# Altium schematic symbol library Schlib1.SchLib: 28 symbols
Pins are listed as number, name and electrical type; pins without a type are passive.

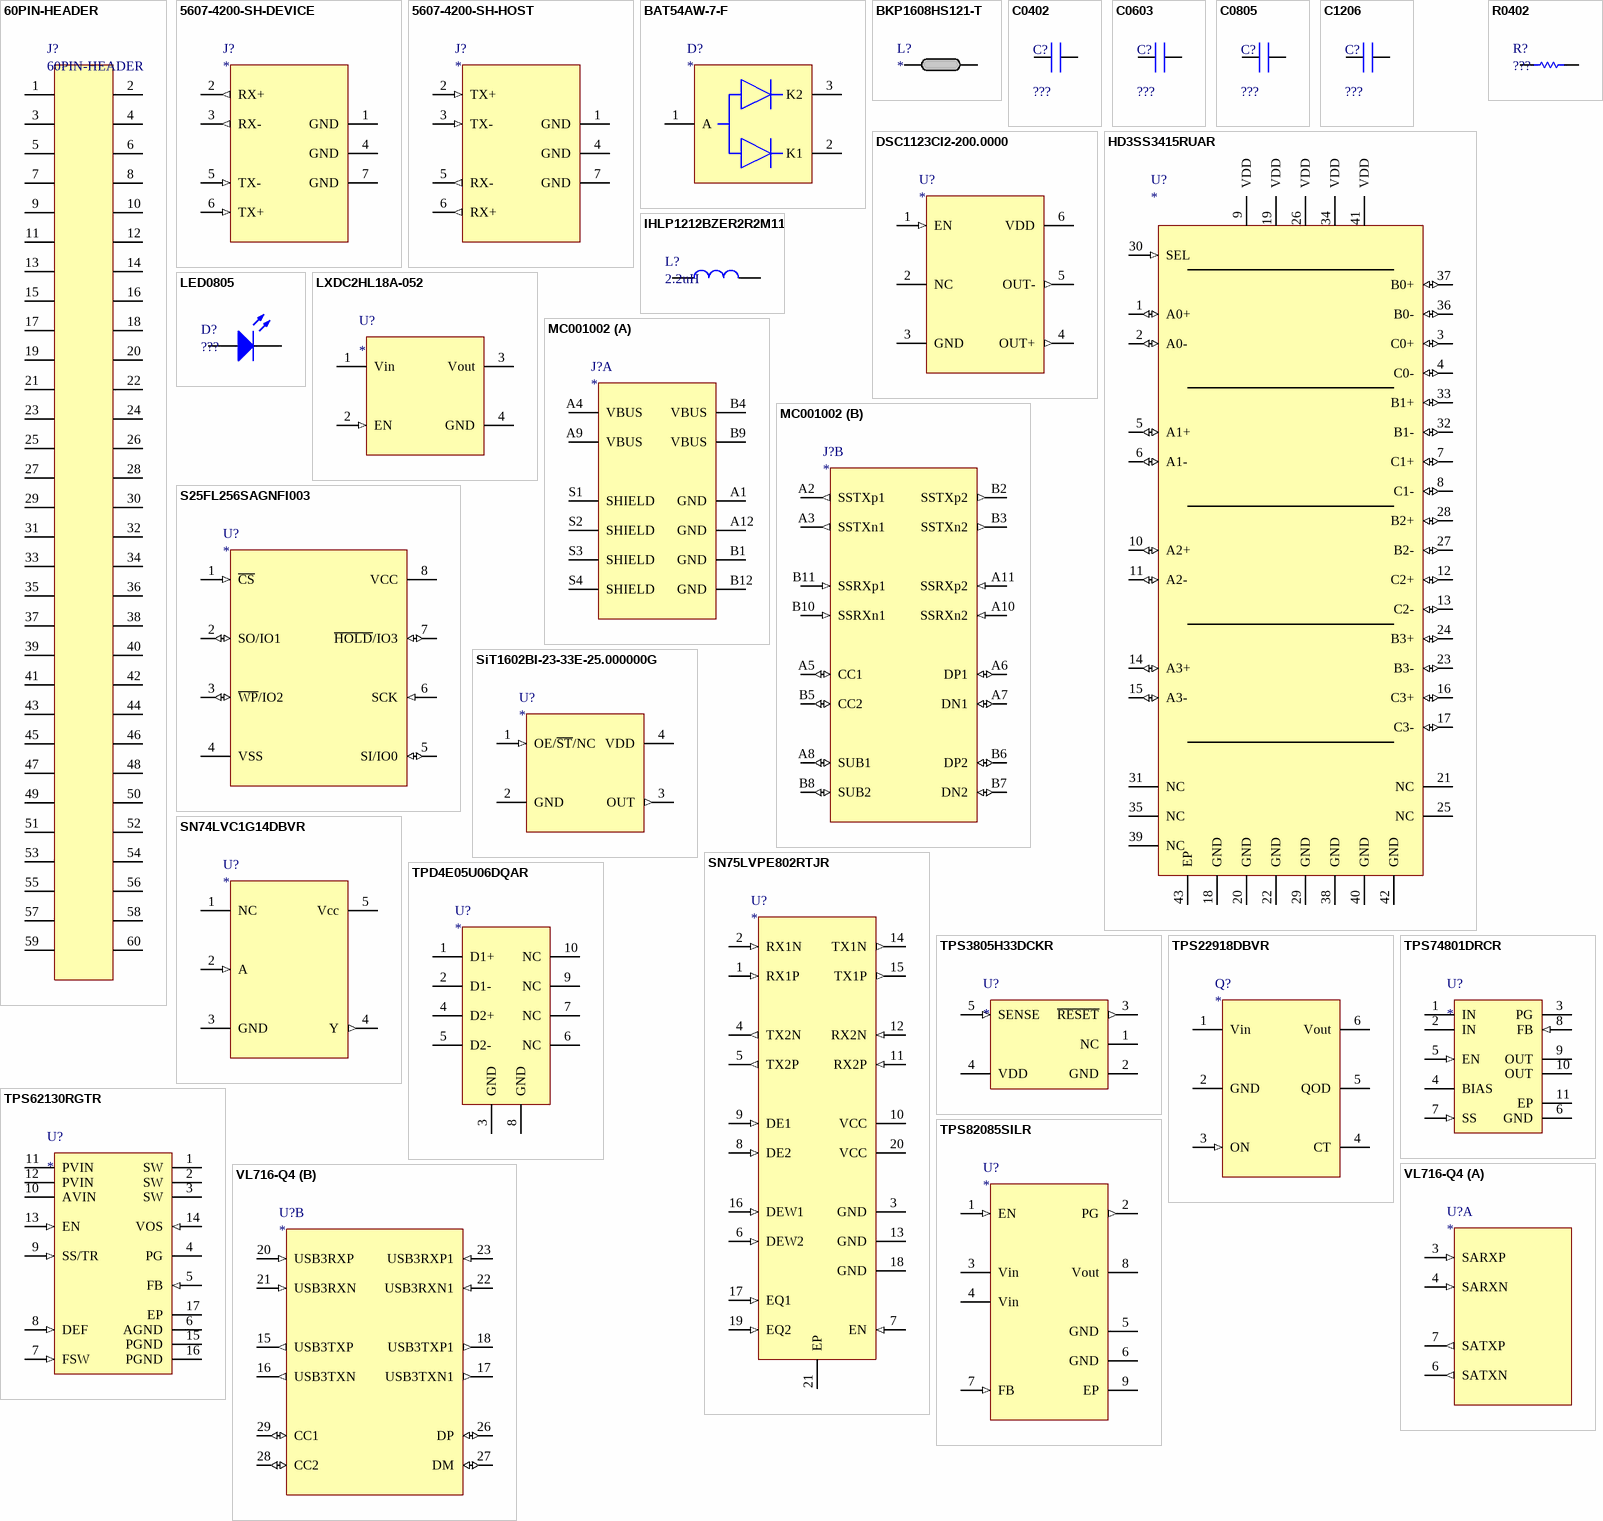
[diagram p0: symbols 60PIN-HEADER to VL716-Q4]

## 60PIN-HEADER
designator J?
2.54mm 60-pin header
footprint 60PIN-HEADER
pins: 1, 2, 3, 4, 5, 6, 7, 8, 9, 10, 11, 12, 13, 14, 15, 16, 17, 18, 19, 20, 21, 22, 23, 24, 25, 26, 27, 28, 29, 30, 31, 32, 33, 34, 35, 36, 37, 38, 39, 40, 41, 42, 43, 44, 45, 46, 47, 48, 49, 50, 51, 52, 53, 54, 55, 56, 57, 58, 59, 60

## 5607-4200-SH-DEVICE
designator J?
3M SATA Series Connector (Device)
footprint 5607-4200-SH (Recommended pcb layout for 5607-4200-SH)
pins: 1 GND (power), 2 RX+ (out), 3 RX- (out), 4 GND (power), 5 TX- (in), 6 TX+ (in), 7 GND (power)

## 5607-4200-SH-HOST
designator J?
3M SATA Series Connector (Host)
footprint 5607-4200-SH (Recommended pcb layout for 5607-4200-SH)
pins: 1 GND (power), 2 TX+ (in), 3 TX- (in), 4 GND (power), 5 RX- (out), 6 RX+ (out), 7 GND (power)

## BAT54AW-7-F
designator D?
SCHOTTKY BARRIER DIODE
footprint BAT54AW-7-F (SOT23, 3-Leads, Body 1,97x2,05mm, Pitch 0,65mm, IPC Medium Density)
pins: 1 A, 2 K1, 3 K2

## BKP1608HS121-T
designator L?
MULTILAYER CHIP BEAD INDUCTOR FOR POWER LINES
footprint INDC1608X08N (Chip Inductor, 2-Leads, Body 1,60x0,80mm, IPC Medium Density)
pins: 1, 2

## C0402
designator C?, comment ???
Ceramic Chip Capacitor; Value: ???
footprint CAPC1005X05N (Chip Capacitor, 2-Leads, Body 1,00x0,50mm, IPC Medium Density)
footprint CAPC1005X05L (Chip Capacitor, 2-Leads, Body 1,00x0,50mm, IPC High Density)
pins: 1, 2

## C0603
designator C?, comment ???
Ceramic Chip Capacitor; Value: ???
footprint CAPC1608X08N (Chip Capacitor, 2-Leads, Body 1,60x0,80mm, IPC Medium Density)
pins: 1, 2

## C0805
designator C?, comment ???
Ceramic Chip Capacitor; Value: ???
footprint CAPC2012X12N (Chip Capacitor, 2-Leads, Body 2,00x1,20mm, IPC Medium Density)
pins: 1, 2

## C1206
designator C?, comment ???
Ceramic Chip Capacitor; Value: ???
footprint CAPC3216X16N (Chip Capacitor, 2-Leads, Body 3,20x1,60mm, IPC Medium Density)
pins: 1, 2

## DSC1123CI2-200.0000
designator U?
Low-Jitter Precision LVDS Oscillator
footprint DSC1123CI2-200.0000 (PSON, 6-Leads, Body 3,20x2,50mm, Pitch 1,05mm, IPC Medium Density)
pins: 1 EN (in), 2 NC, 3 GND (power), 4 OUT+ (out), 5 OUT- (out), 6 VDD (power)

## HD3SS3415RUAR
designator U?
4-Channel High-Performance Differential Switch
footprint HD3SS3415RUAR (QFN, 42-Leads, Body 3,50x9,00mm, Pitch 0,50mm, Thermal Pad 2,05x7,55mm, IPC Medium Density)
pins: 1 A0+ (io), 2 A0- (io), 3 C0+ (io), 4 C0- (io), 5 A1+ (io), 6 A1- (io), 7 C1+ (io), 8 C1- (io), 9 VDD (power), 10 A2+ (io), 11 A2- (io), 12 C2+ (io), 13 C2- (io), 14 A3+ (io), 15 A3- (io), 16 C3+ (io), 17 C3- (io), 18 GND (power), 19 VDD (power), 20 GND (power), 21 NC, 22 GND (power), 23 B3- (io), 24 B3+ (io), 25 NC, 26 VDD (power), 27 B2- (io), 28 B2+ (io), 29 GND (power), 30 SEL (in), 31 NC, 32 B1- (io), 33 B1+ (io), 34 VDD (power), 35 NC, 36 B0- (io), 37 B0+ (io), 38 GND (power), 39 NC, 40 GND (power), 41 VDD (power), 42 GND (power), 43 EP (power)

## IHLP1212BZER2R2M11
designator L?, comment 2.2uH
Commercial Inductors, Low DCR Series; Value: 2.2uH
footprint IHLP1212BZER2R2M11 (Molded Inductor, 2-Leads, Body 3,00x3,00mm, IPC Medium Density)
pins: 1, 2

## LED0805
designator D?, comment ???
SMD chip LED; Text: ???
footprint LEDC2012X10N (Chip LED, 2-Leads, Body 2,00x1,25mm, IPC Medium Density)
pins: 1 K, 2 A

## LXDC2HL18A-052
designator U?
Low power step-down DC-DC converter.
footprint LXDC2HL18A-052 (DFN, 4-Leads, Body 2,50x2,00mm, Pitch 1,10mm, IPC Medium Density)
pins: 1 Vin (power), 2 EN (in), 3 Vout (power), 4 GND (power)

## MC001002
designator J?
USB C Female SMT Connector
footprint MC001002 (Recommended pcb layout for MC001002)
part A pins: A1 GND (power), A4 VBUS (power), A9 VBUS (power), A12 GND (power), B1 GND (power), B4 VBUS (power), B9 VBUS (power), B12 GND (power), S1 SHIELD (power), S2 SHIELD (power), S3 SHIELD (power), S4 SHIELD (power)
part B pins: A2 SSTXp1 (out), A3 SSTXn1 (out), A5 CC1 (io), A6 DP1 (io), A7 DN1 (io), A8 SUB1 (io), A10 SSRXn2 (in), A11 SSRXp2 (in), B2 SSTXp2 (out), B3 SSTXn2 (out), B5 CC2 (io), B6 DP2 (io), B7 DN2 (io), B8 SUB2 (io), B10 SSRXn1 (in), B11 SSRXp1 (in)

## R0402
designator R?, comment ???
Ceramic Chip Resistor; Value: ???
footprint RESC1005X05N (Chip Resistor, 2-Leads, Body 1,00x0,50mm, IPC Medium Density)
pins: 1, 2

## S25FL256SAGNFI003
designator U?
256 Mbit (32 Mbyte)  3.0V SPI Flash Memory
footprint S25FL256SAGNFI003 (SON, 8-Leads, Body 6,00x8,00mm, Pitch 1,27mm, Thermal Pad 4,80x4,65mm, IPC Medium Density)
pins: 1 ~{CS} (in), 2 SO/IO1 (io), 3 ~{WP}/IO2 (io), 4 VSS (power), 5 SI/IO0 (io), 6 SCK (in), 7 ~{HOLD}/IO3 (io), 8 VCC (power)

## SiT1602BI-23-33E-25.000000G
designator U?
Low Power, Standard Frequency Oscillator
footprint SiT1602BI-23-33E-25.000000G (DFN, 4-Leads, Body 3,20x2,50mm, Pitch 1,60mm, IPC Medium Density)
pins: 1 OE/~{ST}/NC (in), 2 GND (power), 3 OUT (out), 4 VDD (power)

## SN74LVC1G14DBVR
designator U?
Single Schmitt-Trigger Inverter
footprint SN74LVC1G14DBVR (SOT23, 5-Leads, Body 2,90x2,80mm, Pitch 0,95mm, IPC Medium Density)
pins: 1 NC, 2 A (in), 3 GND (power), 4 Y (out), 5 Vcc (power)

## SN75LVPE802RTJR
designator U?
Two-Channel 8 Gbps SATA Express Equalizer and Redriver
footprint SN75LVPE802RTJR (QFN, 20-Leads, Body 4,00x4,00mm, Pitch 0,50mm, Thermal Pad 2,15x2,15mm, IPC Medium Density)
pins: 1 RX1P (in), 2 RX1N (in), 3 GND (power), 4 TX2N (out), 5 TX2P (out), 6 DEW2 (in), 7 EN (in), 8 DE2 (in), 9 DE1 (in), 10 VCC (power), 11 RX2P (in), 12 RX2N (in), 13 GND (power), 14 TX1N (out), 15 TX1P (out), 16 DEW1 (in), 17 EQ1 (in), 18 GND (power), 19 EQ2 (in), 20 VCC (power), 21 EP (power)

## TPD4E05U06DQAR
designator U?
4-Channel ESD Protection Device for Super-Speed (Up to 6 Gbps)  Interface
footprint TPD4E05U06DQAR (PSON, 10-Leads, Body 2,50x1,00mm, Pitch 0,50mm, IPC Medium Density)
pins: 1 D1+, 2 D1-, 3 GND (power), 4 D2+, 5 D2-, 6 NC, 7 NC, 8 GND (power), 9 NC, 10 NC

## TPS3805H33DCKR
designator U?
Dual Voltage Detector, 2 Supply Monitored, -40 to 85 degC, 5-pin SC70 (DCK), Green (RoHS & no Sb/Br); Manufacturer: Texas Instruments; PartNumber: TPS3805H33DCKR; # of supplies monitored: 2; Iq(Typ)(uA): 3; Output Driver Type / Reset Output: Active-low, Push-pull; Rating: Catalog; Reset Threshold Accuracy(%): 1.5; SubFamily: Supervisor and Reset IC; Threshold Voltage 1 (typ)(Typ)(V): 3.05; Threshold Voltage 2 (typ)(Typ)(V): Adjustable; VCC(Max)(V): 6; VCC(Min)(V): 1.3; DatasheetVersion: SLVS392A; PackageVersion: revG, Jan-2007; PackageReference: DCK5; PackageDescription: 5-Pin Plastic Small-Outline Package, 2 x 1.3 mm Body, 0.65 mm Pitch, 2.1 mm Lead Span; Supplier 1: Digi-Key; Supplier Part Number 1: 296-13407-2-ND; Supplier 2: Digi-Key; Supplier Part Number 2: 296-13407-1-ND; Supplier 3: Digi-Key; Supplier Part Number 3: 296-13407-6-ND; Supplier 4: Newark; Supplier Part Number 4: 77C0394; Supplier 5: Mouser; Supplier Part Number 5: 595-TPS3805H33DCKR; Mounting Technology: Surface Mount; Code_JEDEC: MO-203-AA; ComponentLink1Description: Datasheet; ComponentLink1URL: http://www.ti.com/general/docs/lit/getliterature.tsp?genericPartNumber=TPS3805H33&fileType=pdf
footprint TPS3805H33DCKR (SOT23, 5-Leads, Body 2,00x2,10mm, Pitch 0,65mm, IPC Medium Density)
pins: 1 NC "No internal connection", 2 GND (power) "Ground", 3 ~{RESET} (out) "Active-low reset output (TPS3803--open-drain, TPS3805--push/pull)", 4 VDD (power) "Input supply voltage, fixed sense input for TPS3803G15 and TPS3805", 5 SENSE (in) "Adjustable sense input"

## TPS22918DBVR
designator Q?
5.5-V, 2-A, 52-mΩ On-Resistance Load Switch
footprint TPS22918DBVR (SOT23, 6-Leads, Body 2,90x2,80mm, Pitch 0,95mm, IPC Medium Density)
pins: 1 Vin (power), 2 GND (power), 3 ON (in), 4 CT (power), 5 QOD (power), 6 Vout (power)

## TPS62130RGTR
designator U?
Buck Step Down Regulator with 3 to 17 V Input and 0.9 to 6 V Output, -40 to 85 degC, 16-Pin QFN (RGT), Green (RoHS & no Sb/Br); Manufacturer: Texas Instruments; PartNumber: TPS62130RGTR; Duty Cycle(Max)(%): 100; Iout(Max)(A): 3; Iq(Typ)(mA): 0.017; Rating: Catalog; Regulated Outputs(#): 1; SubFamily: Step-Down Regulator; Switch Current Limit(Typ)(A): 4.2; Synchronous Rectification: TRUE; Vin(Max)(V): 17; Vout(Max)(V): 6; Vout(Min)(V): 0.9; DatasheetVersion: SLVSAG7; PackageVersion: revH, Oct-2011; PackageReference: RGT16-1700X1700TP; PackageDescription: 16-Pin Plastic Quad Flat No-Lead, 3 x 3 mm Body, 0.5 mm Pitch, 1.7 x 1.7 mm Exposed Pad; Supplier 1: Digi-Key; Supplier Part Number 1: TPS62130RGTR-ND; Supplier 2: Newark; Supplier Part Number 2: 74T5526; Supplier 3: Mouser; Supplier Part Number 3: 595-TPS62130RGTR; Eco-Plan: Green (RoHS & no Sb/Br); Topology: Buck; Vin(Min)(V): 3; Mounting Technology: Surface Mount; Code_JEDEC: MO-220; ComponentLink1Description: Datasheet; ComponentLink1URL: http://www.ti.com/general/docs/lit/getliterature.tsp?genericPartNumber=TPS62130&fileType=pdf; ComponentLink2Description: Package Specification; ComponentLink2URL: http://www.ti.com/litv/pdf/mpqf119g; ComponentLink3Description: URL Link1; ComponentLink3URL: Samples URL:http://www.ti.com/product/tps62130#samples
footprint TPS62130RGTR (QFN, 16-Leads, Body 3,00x3,00mm, Pitch 0,50mm, Thermal Pad 1,70x1,70mm, IPC Medium Density)
pins: 1 SW (power) "Switch node, which is connected to the internal MOSFET switches. Connect inductor between SW and output capacitor", 2 SW (power) "Switch node, which is connected to the internal MOSFET switches. Connect inductor between SW and output capacitor", 3 SW (power) "Switch node, which is connected to the internal MOSFET switches. Connect inductor between SW and output capacitor", 4 PG (hiz) "Output power good (High = VOUT ready, Low = VOUT below nominal regulation) ; open drain (requires pull-up resistor; goes high impedance, when device is switched off)", 5 FB (in) "Voltage feedback of adjustable version. Connect resistive voltage divider to this pin. It is recommended to connect FB to AGND on fixed output voltage versions for improved thermal performance", 6 AGND (power) "Analog Ground", 7 FSW (in) "Switching Frequency Select (Low  2.5MHz, High  1.25MHz for typical operation)", 8 DEF (in) "Output Voltage Scaling (Low = nominal, High = nominal + 5%)", 9 SS/TR (in) "Soft-Start/Tracking Pin .An external capacitor connected to this pin sets the internal voltage reference rise time .It can be used for tracking and sequencing.", 10 AVIN (power) "Supply voltage for control circuitry. Connect to same source as PVIN.", 11 PVIN (power) "Supply voltage for power stage. Connect to same source as AVIN", 12 PVIN (power) "Supply voltage for power stage. Connect to same source as AVIN", 13 EN (in) "Enable input (High = enabled, Low = disabled)", 14 VOS (in) "Output voltage sense pin and connection for the control loop circuitry.", 15 PGND (power) "Power ground", 16 PGND (power) "Power ground", 17 EP (power) "Must be connected to AGND. Must be soldered to achieve appropriate power dissipation and mechanical reliability"

## TPS74801DRCR
designator U?
Single Output LDO, 1.5 A, Adjustable 0.8 to 3.6 V Output, 0.8 to 5.5 V Input, with Programmable Soft Start, 10-pin SON (DRC), -40 to 125 degC, Green (RoHS & no Sb/Br); Manufacturer: Texas Instruments; PartNumber: TPS74801DRCR; Accuracy(%): 2; Iout(Max)(A): 1.5; Iq(Typ)(mA): 1; Power Good: TRUE; Rating: Catalog; SubFamily: Single Channel LDO; Vdo(Typ)(mV): 60; Vin(Max)(V): 5.5; Vin(Min)(V): 0.8; Vout Adj(Max)(V): 3.6; DatasheetVersion: SBVS074J; PackageVersion: 4204102-3/L; PackageReference: DRC10-2400X1650TP; PackageDescription: 10-Pin Plastic Small Outline, Body 3 x 3 mm, Pitch 0.5 mm; Supplier 1: Digi-Key; Supplier Part Number 1: 296-21563-2-ND; Supplier 2: Digi-Key; Supplier Part Number 2: 296-21563-1-ND; Supplier 3: Digi-Key; Supplier Part Number 3: 296-21563-6-ND; Supplier 4: Newark; Supplier Part Number 4: 30M1868; Supplier 5: Mouser; Supplier Part Number 5: 595-TPS74801DRCR; Eco-Plan: Green (RoHS & no Sb/Br); Vout Adj(Min)(V): 0.8; Mounting Technology: Surface Mount; ComponentLink1Description: Manufacturer URL; ComponentLink1URL: http://www.ti.com/; ComponentLink2Description: Datasheet; ComponentLink2URL: http://www.ti.com/general/docs/lit/getliterature.tsp?genericPartNumber=TPS74801&fileType=pdf; ComponentLink3Description: Package Specification; ComponentLink3URL: http://www.ti.com/litv/pdf/mpds117k; ComponentLink4Description: URL Link1; ComponentLink4URL: Samples URL:http://www.ti.com/product/tps74801#samples
footprint TPS74801DRCR (SON, 10-Leads, Body 3x3mm, Pitch 0.5mm, Thermal Pad 3x1.65mm)
pins: 1 IN (power) "Input to the device.", 2 IN (power) "Input to the device.", 3 PG (hiz) "Power Good pin. An open-drain, active-high output that indicates the status of VOUT. When VOUT exceeds the PG trip threshold, the PG pin goes into a high-impedance state. When VOUT is below this threshold the pin is driven (See Datasheet)", 4 BIAS (power) "Bias input voltage for error amplifier, reference, and internal control circuits.", 5 EN (in) "Enable pin. Driving this pin high enables the regulator. Driving this pin low puts the regulator into shutdown mode. This pin must not be left unconnected.", 6 GND (power) "Ground", 7 SS (in) "Soft-Start pin. A capacitor connected on this pin to ground sets the start-up time. If this pin is left unconnected, the regulator output soft-start ramp time is typically 200us.", 8 FB (in) "Feedback pin. The feedback connection to the center tap of an external resistor divider network that sets the output voltage. This pin must not be left floating.", 9 OUT (power) "Regulated output voltage. A small capacitor (total typical capacitance >= 2.2uF, ceramic) is needed from this pin to ground to assure stability.", 10 OUT (power) "Regulated output voltage. A small capacitor (total typical capacitance >= 2.2uF, ceramic) is needed from this pin to ground to assure stability.", 11 EP (power) "Should be soldered to the ground plane for increased thermal performance."

## TPS82085SILR
designator U?
3-A High Efficiency Step-Down Converter
footprint TPS82085SILR (SON, 8-Leads, Body 3,00x2,80mm, Pitch 0,65mm, Thermal Pad 1,90x1,10mm, IPC High Density)
pins: 1 EN (in), 2 PG (out), 3 Vin (power), 4 Vin (power), 5 GND (power), 6 GND (power), 7 FB (in), 8 Vout (power), 9 EP (power)

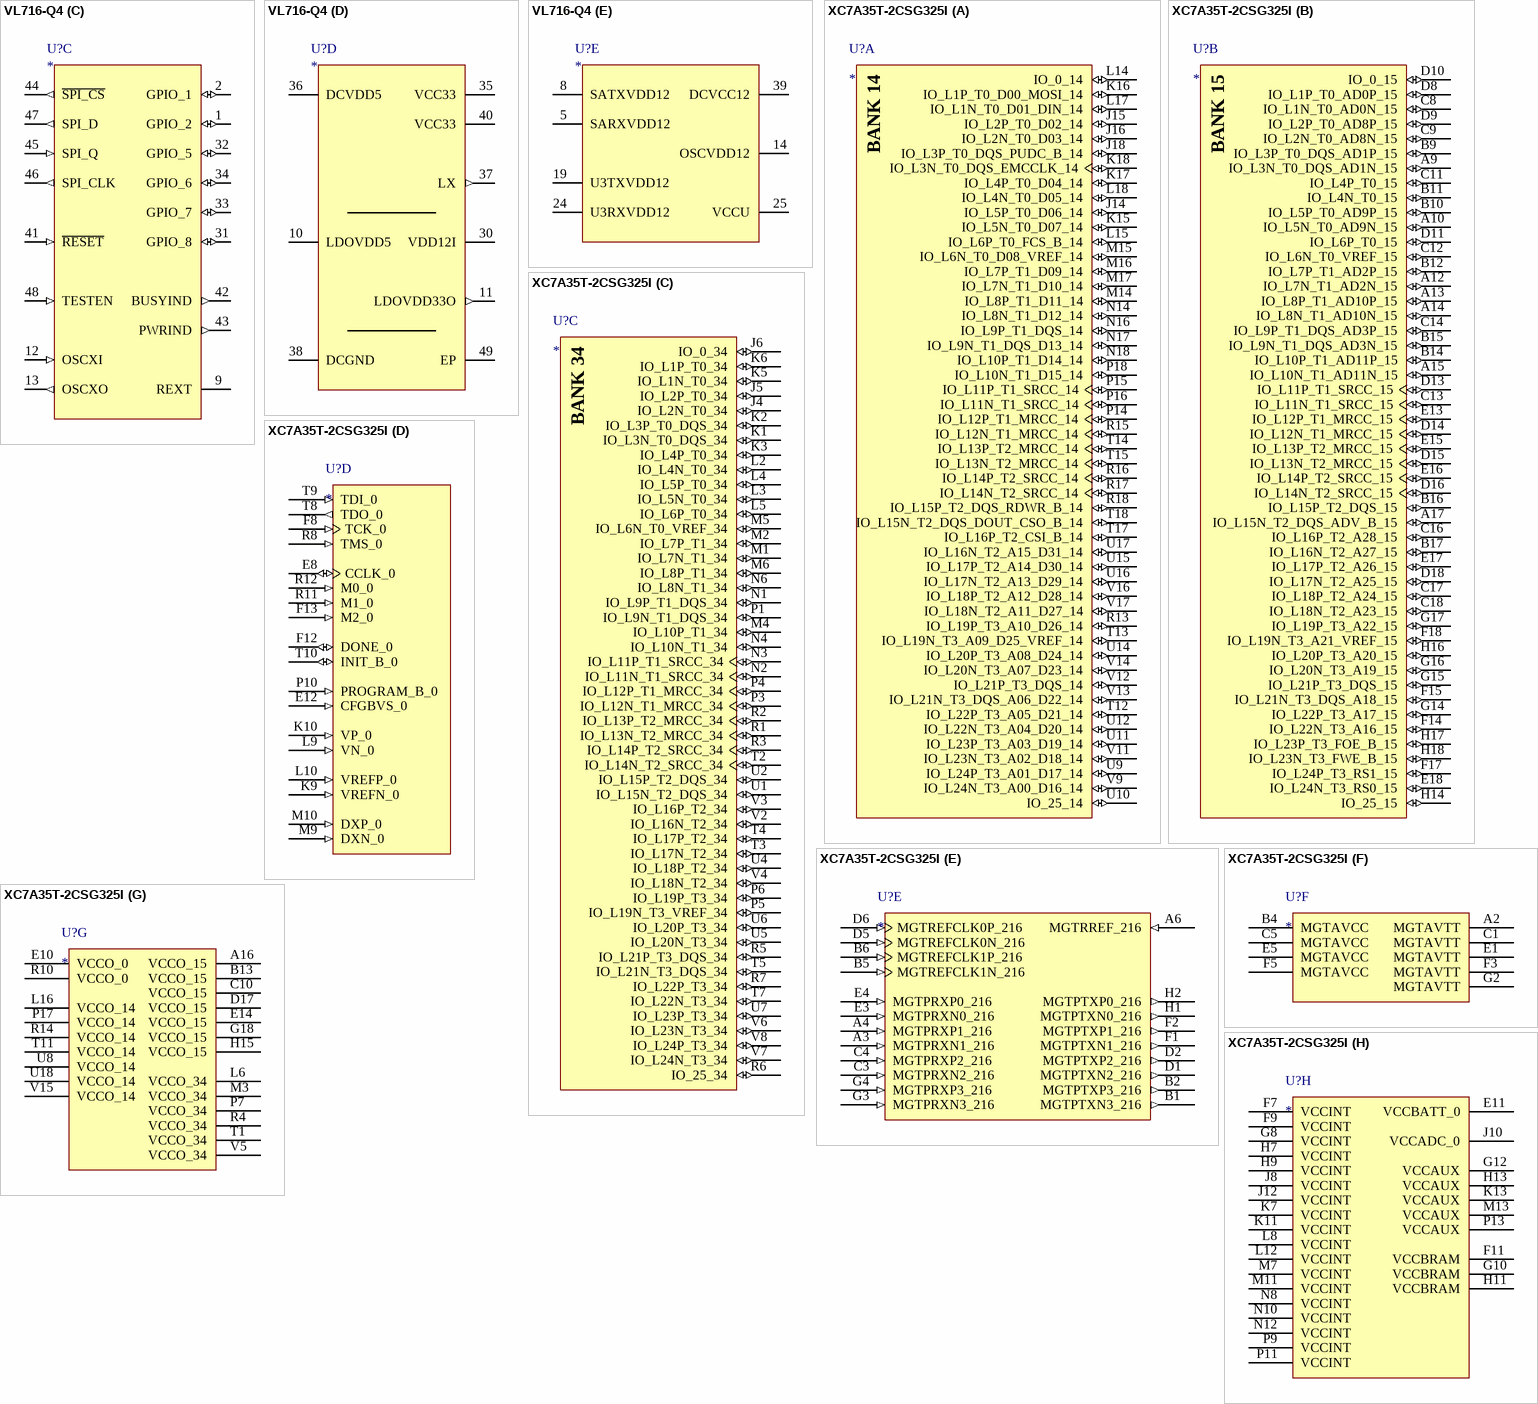
[diagram p1: symbols VL716-Q4 to XC7A35T-2CSG325I]

## VL716-Q4
designator U?
USB 3.1 to SATA 6Gb/s bridge controller with USB type-C connector support
footprint VL716-Q4 (QFN, 48-Leads, Body 6,00x6,00mm, Pitch 0,40mm, Thermal Pad 4,30x4,30mm, IPC Medium Density)
part A pins: 3 SARXP (in), 4 SARXN (in), 6 SATXN (out), 7 SATXP (out)
part B pins: 15 USB3TXP (out), 16 USB3TXN (out), 17 USB3TXN1 (out), 18 USB3TXP1 (out), 20 USB3RXP (in), 21 USB3RXN (in), 22 USB3RXN1 (in), 23 USB3RXP1 (in), 26 DP (io), 27 DM (io), 28 CC2 (io), 29 CC1 (io)
part C pins: 1 GPIO_2 (io), 2 GPIO_1 (io), 9 REXT, 12 OSCXI (in), 13 OSCXO (out), 31 GPIO_8 (io), 32 GPIO_5 (io), 33 GPIO_7 (io), 34 GPIO_6 (io), 41 ~{RESET} (in), 42 BUSYIND (out), 43 PWRIND (out), 44 ~{SPI_CS} (out), 45 SPI_Q (in), 46 SPI_CLK (out), 47 SPI_D (out), 48 TESTEN (in)
part D pins: 10 LDOVDD5 (power), 11 LDOVDD33O (out), 30 VDD12I (power), 35 VCC33 (power), 36 DCVDD5 (power), 37 LX (out), 38 DCGND (power), 40 VCC33 (power), 49 EP (power)
part E pins: 5 SARXVDD12 (power), 8 SATXVDD12 (power), 14 OSCVDD12 (power), 19 U3TXVDD12 (power), 24 U3RXVDD12 (power), 25 VCCU (power), 39 DCVCC12 (power)

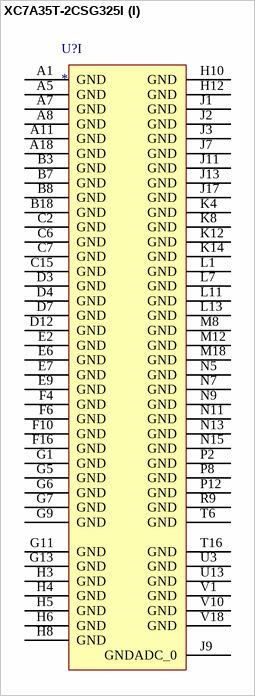
[diagram p2: symbol XC7A35T-2CSG325I]

## XC7A35T-2CSG325I
designator U?
Artix-7 FPGA, 150 User I/Os, 4 GTP, 324-Ball BGA, Speed Grade 2, Industrial Grade, Pb-Free; Manufacturer: Xilinx; Total Block RAM: 1800 Kb; GTP: 4; Clock Mgmt Tiles (CMTs): 5; Logic Cells: 33280; Available User I/O: 150; Speed Grades: 2; NexusDeviceID: XC7A35T-2CSG325I; DatasheetVersion: v1.15; PackageVersion: Rev. 1.11; PackageReference: CSG-325; PackageDescription: 324-Ball Wire-Bond Chip-Scale BGA, Body 15 x 15 mm, Pitch 0.8 mm; Maximum Distributed RAM: 400 Kb; Operating Temperature Range: Industrial; Mounting Technology: Surface Mount; PartNumber: XC7A35T-2CSG325I; ComponentLink1Description: Manufacturer URL; ComponentLink1URL: http://www.xilinx.com/; ComponentLink2Description: Datasheet; ComponentLink2URL: http://www.xilinx.com/support/documentation/data_sheets/ds180_7Series_Overview.pdf; ComponentLink3Description: Package Specification; ComponentLink3URL: http://www.xilinx.com/support/documentation/user_guides/ug475_7Series_Pkg_Pinout.pdf; ComponentLink4Description: DC and Switching Characteristics; ComponentLink4URL: http://www.xilinx.com/support/documentation/data_sheets/ds181_Artix_7_Data_Sheet.pdf; ComponentLink5Description: Package File; ComponentLink5URL: http://www.xilinx.com/support/packagefiles/a7packages/xc7a200tsbg484pkg.txt; ComponentLink6Description: Packaging and Pinout; ComponentLink6URL: http://www.xilinx.com/support/documentation/user_guides/ug475_7Series_Pkg_Pinout.pdf
footprint XC7A35T-2CSG325I (BGA, 324-Balls, Body 15x15mm, Pitch 0.8mm)
part A pins: J14 IO_L5P_T0_D06_14 (io), J15 IO_L2P_T0_D02_14 (io), J16 IO_L2N_T0_D03_14 (io), J18 IO_L3P_T0_DQS_PUDC_B_14 (io), K15 IO_L5N_T0_D07_14 (io), K16 IO_L1P_T0_D00_MOSI_14 (io), K17 IO_L4P_T0_D04_14 (io), K18 IO_L3N_T0_DQS_EMCCLK_14 (io), L14 IO_0_14 (io), L15 IO_L6P_T0_FCS_B_14 (io), L17 IO_L1N_T0_D01_DIN_14 (io), L18 IO_L4N_T0_D05_14 (io), M14 IO_L8P_T1_D11_14 (io), M15 IO_L6N_T0_D08_VREF_14 (io), M16 IO_L7P_T1_D09_14 (io), M17 IO_L7N_T1_D10_14 (io), N14 IO_L8N_T1_D12_14 (io), N16 IO_L9P_T1_DQS_14 (io), N17 IO_L9N_T1_DQS_D13_14 (io), N18 IO_L10P_T1_D14_14 (io), P14 IO_L12P_T1_MRCC_14 (io), P15 IO_L11P_T1_SRCC_14 (io), P16 IO_L11N_T1_SRCC_14 (io), P18 IO_L10N_T1_D15_14 (io), R13 IO_L19P_T3_A10_D26_14 (io), R15 IO_L12N_T1_MRCC_14 (io), R16 IO_L14P_T2_SRCC_14 (io), R17 IO_L14N_T2_SRCC_14 (io), R18 IO_L15P_T2_DQS_RDWR_B_14 (io), T12 IO_L22P_T3_A05_D21_14 (io), T13 IO_L19N_T3_A09_D25_VREF_14 (io), T14 IO_L13P_T2_MRCC_14 (io), T15 IO_L13N_T2_MRCC_14 (io), T17 IO_L16P_T2_CSI_B_14 (io), T18 IO_L15N_T2_DQS_DOUT_CSO_B_14 (io), U9 IO_L24P_T3_A01_D17_14 (io), U10 IO_25_14 (io), U11 IO_L23P_T3_A03_D19_14 (io), U12 IO_L22N_T3_A04_D20_14 (io), U14 IO_L20P_T3_A08_D24_14 (io), U15 IO_L17P_T2_A14_D30_14 (io), U16 IO_L17N_T2_A13_D29_14 (io), U17 IO_L16N_T2_A15_D31_14 (io), V9 IO_L24N_T3_A00_D16_14 (io), V11 IO_L23N_T3_A02_D18_14 (io), V12 IO_L21P_T3_DQS_14 (io), V13 IO_L21N_T3_DQS_A06_D22_14 (io), V14 IO_L20N_T3_A07_D23_14 (io), V16 IO_L18P_T2_A12_D28_14 (io), V17 IO_L18N_T2_A11_D27_14 (io)
part B pins: A9 IO_L3N_T0_DQS_AD1N_15 (io), A10 IO_L5N_T0_AD9N_15 (io), A12 IO_L7N_T1_AD2N_15 (io), A13 IO_L8P_T1_AD10P_15 (io), A14 IO_L8N_T1_AD10N_15 (io), A15 IO_L10N_T1_AD11N_15 (io), A17 IO_L15N_T2_DQS_ADV_B_15 (io), B9 IO_L3P_T0_DQS_AD1P_15 (io), B10 IO_L5P_T0_AD9P_15 (io), B11 IO_L4N_T0_15 (io), B12 IO_L7P_T1_AD2P_15 (io), B14 IO_L10P_T1_AD11P_15 (io), B15 IO_L9N_T1_DQS_AD3N_15 (io), B16 IO_L15P_T2_DQS_15 (io), B17 IO_L16N_T2_A27_15 (io), C8 IO_L1N_T0_AD0N_15 (io), C9 IO_L2N_T0_AD8N_15 (io), C11 IO_L4P_T0_15 (io), C12 IO_L6N_T0_VREF_15 (io), C13 IO_L11N_T1_SRCC_15 (io), C14 IO_L9P_T1_DQS_AD3P_15 (io), C16 IO_L16P_T2_A28_15 (io), C17 IO_L18P_T2_A24_15 (io), C18 IO_L18N_T2_A23_15 (io), D8 IO_L1P_T0_AD0P_15 (io), D9 IO_L2P_T0_AD8P_15 (io), D10 IO_0_15 (io), D11 IO_L6P_T0_15 (io), D13 IO_L11P_T1_SRCC_15 (io), D14 IO_L12N_T1_MRCC_15 (io), D15 IO_L13N_T2_MRCC_15 (io), D16 IO_L14N_T2_SRCC_15 (io), D18 IO_L17N_T2_A25_15 (io), E13 IO_L12P_T1_MRCC_15 (io), E15 IO_L13P_T2_MRCC_15 (io), E16 IO_L14P_T2_SRCC_15 (io), E17 IO_L17P_T2_A26_15 (io), E18 IO_L24N_T3_RS0_15 (io), F14 IO_L22N_T3_A16_15 (io), F15 IO_L21N_T3_DQS_A18_15 (io), F17 IO_L24P_T3_RS1_15 (io), F18 IO_L19N_T3_A21_VREF_15 (io), G14 IO_L22P_T3_A17_15 (io), G15 IO_L21P_T3_DQS_15 (io), G16 IO_L20N_T3_A19_15 (io), G17 IO_L19P_T3_A22_15 (io), H14 IO_25_15 (io), H16 IO_L20P_T3_A20_15 (io), H17 IO_L23P_T3_FOE_B_15 (io), H18 IO_L23N_T3_FWE_B_15 (io)
part C pins: J4 IO_L2N_T0_34 (io), J5 IO_L2P_T0_34 (io), J6 IO_0_34 (io), K1 IO_L3N_T0_DQS_34 (io), K2 IO_L3P_T0_DQS_34 (io), K3 IO_L4P_T0_34 (io), K5 IO_L1N_T0_34 (io), K6 IO_L1P_T0_34 (io), L2 IO_L4N_T0_34 (io), L3 IO_L5N_T0_34 (io), L4 IO_L5P_T0_34 (io), L5 IO_L6P_T0_34 (io), M1 IO_L7N_T1_34 (io), M2 IO_L7P_T1_34 (io), M4 IO_L10P_T1_34 (io), M5 IO_L6N_T0_VREF_34 (io), M6 IO_L8P_T1_34 (io), N1 IO_L9P_T1_DQS_34 (io), N2 IO_L11N_T1_SRCC_34 (io), N3 IO_L11P_T1_SRCC_34 (io), N4 IO_L10N_T1_34 (io), N6 IO_L8N_T1_34 (io), P1 IO_L9N_T1_DQS_34 (io), P3 IO_L12N_T1_MRCC_34 (io), P4 IO_L12P_T1_MRCC_34 (io), P5 IO_L19N_T3_VREF_34 (io), P6 IO_L19P_T3_34 (io), R1 IO_L13N_T2_MRCC_34 (io), R2 IO_L13P_T2_MRCC_34 (io), R3 IO_L14P_T2_SRCC_34 (io), R5 IO_L21P_T3_DQS_34 (io), R6 IO_25_34 (io), R7 IO_L22P_T3_34 (io), T2 IO_L14N_T2_SRCC_34 (io), T3 IO_L17N_T2_34 (io), T4 IO_L17P_T2_34 (io), T5 IO_L21N_T3_DQS_34 (io), T7 IO_L22N_T3_34 (io), U1 IO_L15N_T2_DQS_34 (io), U2 IO_L15P_T2_DQS_34 (io), U4 IO_L18P_T2_34 (io), U5 IO_L20N_T3_34 (io), U6 IO_L20P_T3_34 (io), U7 IO_L23P_T3_34 (io), V2 IO_L16N_T2_34 (io), V3 IO_L16P_T2_34 (io), V4 IO_L18N_T2_34 (io), V6 IO_L23N_T3_34 (io), V7 IO_L24N_T3_34 (io), V8 IO_L24P_T3_34 (io)
part D pins: E8 CCLK_0 (io), E12 CFGBVS_0 (in), F8 TCK_0 (in), F12 DONE_0 (io), F13 M2_0 (in), K9 VREFN_0 (in), K10 VP_0 (in), L9 VN_0 (in), L10 VREFP_0 (in), M9 DXN_0 (in), M10 DXP_0 (in), P10 PROGRAM_B_0 (in), R8 TMS_0 (in), R11 M1_0 (in), R12 M0_0 (in), T8 TDO_0 (out), T9 TDI_0 (in), T10 INIT_B_0 (io)
part E pins: A3 MGTPRXN1_216 (in), A4 MGTPRXP1_216 (in), A6 MGTRREF_216 (in), B1 MGTPTXN3_216 (out), B2 MGTPTXP3_216 (out), B5 MGTREFCLK1N_216 (in), B6 MGTREFCLK1P_216 (in), C3 MGTPRXN2_216 (in), C4 MGTPRXP2_216 (in), D1 MGTPTXN2_216 (out), D2 MGTPTXP2_216 (out), D5 MGTREFCLK0N_216 (in), D6 MGTREFCLK0P_216 (in), E3 MGTPRXN0_216 (in), E4 MGTPRXP0_216 (in), F1 MGTPTXN1_216 (out), F2 MGTPTXP1_216 (out), G3 MGTPRXN3_216 (in), G4 MGTPRXP3_216 (in), H1 MGTPTXN0_216 (out), H2 MGTPTXP0_216 (out)
part F pins: A2 MGTAVTT (power), B4 MGTAVCC (power), C1 MGTAVTT (power), C5 MGTAVCC (power), E1 MGTAVTT (power), E5 MGTAVCC (power), F3 MGTAVTT (power), F5 MGTAVCC (power), G2 MGTAVTT (power)
part G pins: A16 VCCO_15 (power), B13 VCCO_15 (power), C10 VCCO_15 (power), D17 VCCO_15 (power), E10 VCCO_0 (power), E14 VCCO_15 (power), G18 VCCO_15 (power), H15 VCCO_15 (power), L6 VCCO_34 (power), L16 VCCO_14 (power), M3 VCCO_34 (power), P7 VCCO_34 (power), P17 VCCO_14 (power), R4 VCCO_34 (power), R10 VCCO_0 (power), R14 VCCO_14 (power), T1 VCCO_34 (power), T11 VCCO_14 (power), U8 VCCO_14 (power), U18 VCCO_14 (power), V5 VCCO_34 (power), V15 VCCO_14 (power)
part H pins: E11 VCCBATT_0 (power), F7 VCCINT (power), F9 VCCINT (power), F11 VCCBRAM (power), G8 VCCINT (power), G10 VCCBRAM (power), G12 VCCAUX (power), H7 VCCINT (power), H9 VCCINT (power), H11 VCCBRAM (power), H13 VCCAUX (power), J8 VCCINT (power), J10 VCCADC_0 (power), J12 VCCINT (power), K7 VCCINT (power), K11 VCCINT (power), K13 VCCAUX (power), L8 VCCINT (power), L12 VCCINT (power), M7 VCCINT (power), M11 VCCINT (power), M13 VCCAUX (power), N8 VCCINT (power), N10 VCCINT (power), N12 VCCINT (power), P9 VCCINT (power), P11 VCCINT (power), P13 VCCAUX (power)
part I pins: A1 GND (power), A5 GND (power), A7 GND (power), A8 GND (power), A11 GND (power), A18 GND (power), B3 GND (power), B7 GND (power), B8 GND (power), B18 GND (power), C2 GND (power), C6 GND (power), C7 GND (power), C15 GND (power), D3 GND (power), D4 GND (power), D7 GND (power), D12 GND (power), E2 GND (power), E6 GND (power), E7 GND (power), E9 GND (power), F4 GND (power), F6 GND (power), F10 GND (power), F16 GND (power), G1 GND (power), G5 GND (power), G6 GND (power), G7 GND (power), G9 GND (power), G11 GND (power), G13 GND (power), H3 GND (power), H4 GND (power), H5 GND (power), H6 GND (power), H8 GND (power), H10 GND (power), H12 GND (power), J1 GND (power), J2 GND (power), J3 GND (power), J7 GND (power), J9 GNDADC_0 (power), J11 GND (power), J13 GND (power), J17 GND (power), K4 GND (power), K8 GND (power), K12 GND (power), K14 GND (power), L1 GND (power), L7 GND (power), L11 GND (power), L13 GND (power), M8 GND (power), M12 GND (power), M18 GND (power), N5 GND (power), N7 GND (power), N9 GND (power), N11 GND (power), N13 GND (power), N15 GND (power), P2 GND (power), P8 GND (power), P12 GND (power), R9 GND (power), T6 GND (power), T16 GND (power), U3 GND (power), U13 GND (power), V1 GND (power), V10 GND (power), V18 GND (power)
part A text: BANK 14
part B text: BANK 15
part C text: BANK 34